# Altium footprint library tempsensor.PcbLib: 19 footprints (part 1 of 2)
Each footprint in its own frame and in the unit in brackets; x right, y up, seen from the top. Pads: shape width x height; smd on the part's side, far side on the other; paste and mask are expansions set on the pad; w line width, h text height; cw(c..) or ccw(c..) is an arc to the next point about the centre after c.
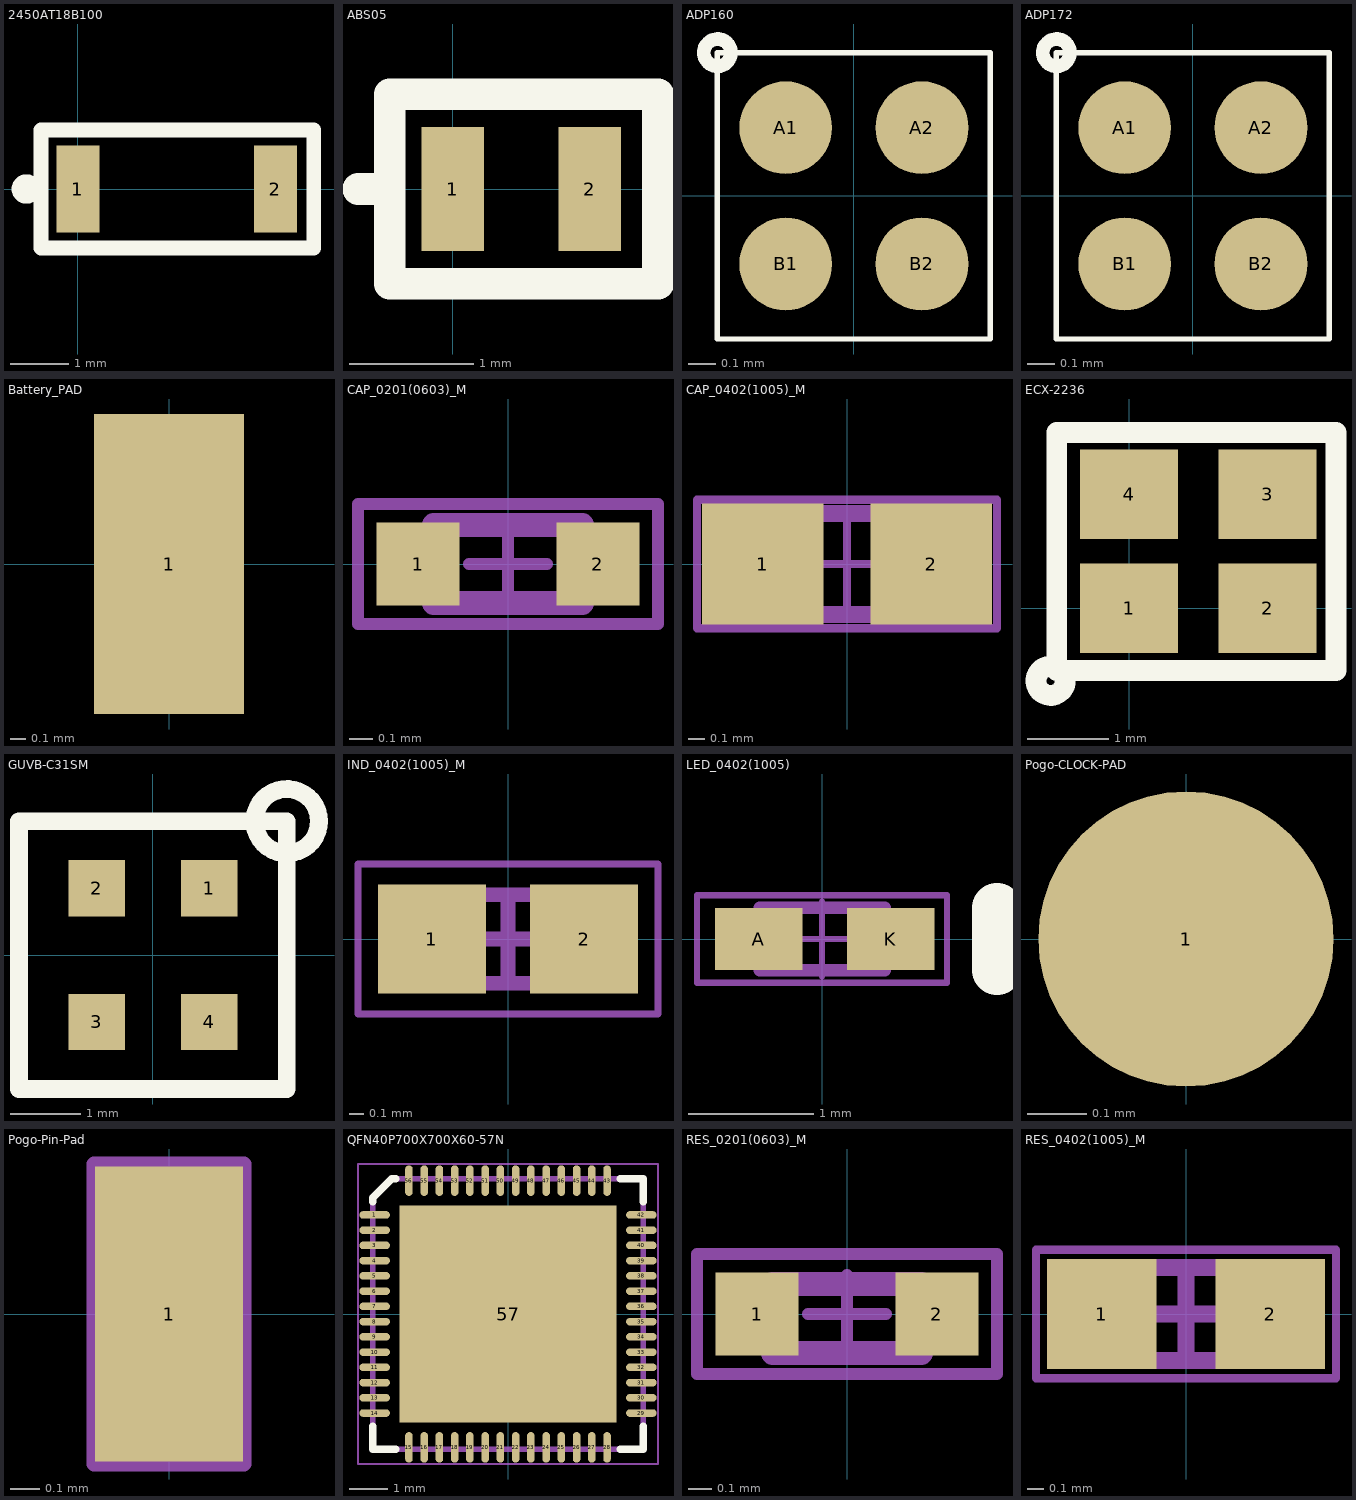
[diagram p0: the footprints below, top view; thin cyan lines are the x and y axes]

## 2450AT18B100 [mm] "2.4GHz Mini Antenna SMD, 50 ohm Resistence"
height 1.35
pads (2):
  rect 0.74x1.5 smd mask+0.03: 1(0,0) 2(3.406,0)
Top Overlay:
  circle w0.254: c-0.889,0 r0.127
  lines w0.254: -0.635,-1.016 -0.635,1.016 4.064,1.016 4.064,-1.016 -0.635,-1.016
3D body: height 1.4, standoff 0, extent -0.049,-0.9 3.351,0.9

## ABS05 [mm] "32.768 kHz CRYSTAL 12.5 PF +/-20ppm"
height 1.35
pads (2):
  rect 0.5x1 smd mask+0.1: 1(0,0) 2(1.102,0)
Top Overlay:
  lines w0.254: -0.762,0 -0.508,0 ; -0.508,-0.762 -0.508,0.762 1.651,0.762 1.651,-0.762 -0.508,-0.762
3D body "ABS05.STEP": height 0.5, standoff 0, extent -0.254,-0.5 1.346,0.5

## ADP160 [mm] "4-Ball WLCSP, CB-4-4"
height 0.595
pads (4):
  round 0.34 smd paste+0.01 mask+0.01: A1(-0.25,0.25) A2(0.25,0.25) B1(-0.25,-0.25) B2(0.25,-0.25)
Top Overlay:
  circle w0.05: c-0.5,0.525 r0.05
  lines w0.02: -0.5,-0.525 0.5,-0.525 0.5,0.525 -0.5,0.525 -0.5,-0.525
3D body: height 0.69, standoff 0.21, extent -0.48,-0.48 0.48,0.48

## ADP172 [mm] "4-Ball WLCSP, CB-4-4"
height 0.595
pads (4):
  round 0.34 smd paste+0.01 mask+0.01: A1(-0.25,0.25) A2(0.25,0.25) B1(-0.25,-0.25) B2(0.25,-0.25)
Top Overlay:
  circle w0.05: c-0.5,0.525 r0.05
  lines w0.02: -0.5,-0.525 0.5,-0.525 0.5,0.525 -0.5,0.525 -0.5,-0.525
3D body: height 0.69, standoff 0.21, extent -0.48,-0.48 0.48,0.48

## Battery_PAD [mm]
pads (1):
  rect 1x2 smd: 1(0,0)

## CAP_0201(0603)_M [mm] "Chip Capacitor, Body 0.6x0.3mm, Height 0.33mm, IPC Low Density"
height 0.33
pads (2):
  rect 0.35x0.35 smd mask+0: 1(-0.381,0) 2(0.381,0)
Mechanical 13:
  lines w0.1: -0.315,-0.165 -0.315,0.165 0.315,0.165 0.315,-0.165 -0.315,-0.165
Mechanical 15:
  lines w0.05: -0.165,0 0.165,0 ; 0,-0.165 0,0.165 ; -0.635,-0.254 -0.635,0.254 0.635,0.254 0.635,-0.254 -0.635,-0.254
3D body: height 0.33, standoff 0, extent -0.165,-0.165 0.165,0.165
3D body: height 0.33, standoff 0, extent -0.315,-0.165 -0.165,0.165
3D body: height 0.33, standoff 0, extent 0.165,-0.165 0.315,0.165

## CAP_0402(1005)_M [mm] "Chip Capacitor, Body 1.0x0.5mm, Height 0.6mm, IPC Low Density"
height 0.6
pads (2):
  rect 0.72x0.72 smd: 1(-0.5,0) 2(0.5,0)
Mechanical 13:
  lines w0.1: -0.55,-0.3 0.55,-0.3 0.55,0.3 -0.55,0.3 -0.55,-0.3
Mechanical 15:
  lines w0.05: -0.3,0 0.3,0 ; 0,-0.3 0,0.3 ; -0.889,-0.381 0.889,-0.381 0.889,0.381 -0.889,0.381 -0.889,-0.381
3D body: height 0.6, standoff 0, extent 0.3,-0.3 0.55,0.3
3D body: height 0.6, standoff 0, extent -0.55,-0.3 -0.3,0.3
3D body: height 0.6, standoff 0, extent -0.3,-0.3 0.3,0.3

## ECX-2236 [mm] "48 MHz CRYSTAL 2.5X2.0mm"
height 1.35
pads (4):
  rect 1.2x1.1 smd mask+0.05: 1(0,0) 2(1.7,0) 4(0,1.4)
  rect 1.2x1.1 smd paste+0 mask+0.05: 3(1.7,1.4)
Top Overlay:
  circle w0.254: c-0.963,-0.889 r0.18
  lines w0.254: -0.889,-0.762 -0.889,2.159 2.54,2.159 2.54,-0.762 -0.889,-0.762
3D body: height 0.8, standoff 0, extent -0.361,-0.238 2.139,1.762

## GUVB-C31SM [mm]
pads (4):
  rect 0.8x0.8 smd: 1(0.8,0.95) 2(-0.8,0.95) 3(-0.8,-0.95) 4(0.8,-0.95)
Top Overlay:
  circle w0.254: c1.905,1.905 r0.458
  lines w0.254: -1.905,-1.905 -1.905,1.905 1.905,1.905 1.905,-1.905 -1.905,-1.905
3D body "guvb_c31sm.STEP": height 1.4, standoff 0, extent -1,-1.15 1,1.15

## IND_0402(1005)_M [mm] "Chip Inductor, 2-Leads, Body 1.1x0.6mm, IPC Low Density"
height 0.45
pads (2):
  rect 0.73x0.74 smd: 1(-0.515,0) 2(0.515,0)
Mechanical 13:
  lines w0.1: -0.55,-0.3 -0.55,0.3 0.55,0.3 0.55,-0.3 -0.55,-0.3
Mechanical 15:
  lines w0.05: -1.016,-0.508 -1.016,0.508 1.016,0.508 1.016,-0.508 -1.016,-0.508
  lines w0.1: -0.3,0 0.3,0 ; 0,-0.3 0,0.3
3D body "INDC1005X05M.step": height 0.45, standoff 0, extent -0.55,-0.3 0.55,0.3

## LED_0402(1005) [mm] "SMD, 2-Leads, Body 1x0.5mm"
height 0.6
pads (2):
  rect 0.7x0.5 smd: A(-0.508,0) K(0.55,0)
Top Overlay:
  lines w0.4: 1.4,-0.25 1.4,0.25
Mechanical 13:
  lines w0.1: 0.4,-0.25 0.4,0.25 ; -0.5,-0.25 -0.5,0.25 0.5,0.25 0.5,-0.25 -0.5,-0.25
Mechanical 15:
  lines w0.05: -0.3,0 0.3,0 ; 0,-0.3 0,0.3 ; -1,-0.35 -1,0.35 1,0.35 1,-0.35 -1,-0.35
3D body: height 0.6, standoff 0.15, extent -0.399,-0.249 0.399,0.249
3D body: height 0.15, standoff 0, extent -0.499,-0.249 0.499,0.249

## Pogo-CLOCK-PAD [mm]
pads (1):
  round 0.5 smd: 1(0,0)

## Pogo-Pin-Pad [mm]
pads (1):
  rect 0.5x1 smd: 1(0,0)
Mechanical 13:
  lines w0.1: -0.165,-0.315 0.165,-0.315 ; -0.165,0.315 0.165,0.315
Mechanical 15:
  lines w0.05: -0.165,0 0.165,0 ; 0,-0.165 0,0.165 ; -0.254,-0.508 0.254,-0.508 0.254,0.508 -0.254,0.508 -0.254,-0.508
3D body: height 0.33, standoff 0, extent -0.165,-0.165 0.165,0.165
3D body: height 0.33, standoff 0, extent -0.165,-0.315 0.165,-0.165
3D body: height 0.33, standoff 0, extent -0.165,0.165 0.165,0.315

## QFN40P700X700X60-57N [mm]
height 0.6
pads (57):
  oval 0.8x0.2 smd mask+0: 1(-3.5,2.6) 2(-3.5,2.2) 3(-3.5,1.8) 4(-3.5,1.4) 5(-3.5,1) 6(-3.5,0.6) 7(-3.5,0.2) 8(-3.5,-0.2) 9(-3.5,-0.6) 10(-3.5,-1) 11(-3.5,-1.4) 12(-3.5,-1.8) 13(-3.5,-2.2) 14(-3.5,-2.6) 29(3.5,-2.6) 30(3.5,-2.2) 31(3.5,-1.8) 32(3.5,-1.4) 33(3.5,-1) 34(3.5,-0.6) 35(3.5,-0.2) 36(3.5,0.2) 37(3.5,0.6) 38(3.5,1) 39(3.5,1.4) 40(3.5,1.8) 41(3.5,2.2) 42(3.5,2.6)
  oval 0.2x0.8 smd mask+0: 15(-2.6,-3.5) 16(-2.2,-3.5) 17(-1.8,-3.5) 18(-1.4,-3.5) 19(-1,-3.5) 20(-0.6,-3.5) 21(-0.2,-3.5) 22(0.2,-3.5) 23(0.6,-3.5) 24(1,-3.5) 25(1.4,-3.5) 26(1.8,-3.5) 27(2.2,-3.5) 28(2.6,-3.5) 43(2.6,3.5) 44(2.2,3.5) 45(1.8,3.5) 46(1.4,3.5) 47(1,3.5) 48(0.6,3.5) 49(0.2,3.5) 50(-0.2,3.5) 51(-0.6,3.5) 52(-1,3.5) 53(-1.4,3.5) 54(-1.8,3.5) 55(-2.2,3.5) 56(-2.6,3.5)
  rect 5.7x5.7 smd paste-5.7 mask+0: 57(0,0)
Top Overlay:
  lines w0.2: -3.55,-2.95 -3.55,-3.55 -2.95,-3.55 ; -3.55,2.95 -3.55,3.05 -3.05,3.55 -2.95,3.55 ; 2.951,-3.55 3.55,-3.55 3.55,-2.95 ; 2.95,3.55 3.55,3.55 3.55,2.951
Top Paste:
  region: -0.25,-2.35 -2.35,-2.35 -2.35,-0.25 -0.25,-0.25
  region: 2.35,-2.35 0.25,-2.35 0.25,-0.25 2.35,-0.25
  region: 2.35,0.25 0.25,0.25 0.25,2.35 2.35,2.35
  region: -0.25,0.25 -2.35,0.25 -2.35,2.35 -0.25,2.35
Mechanical 13:
  lines w0.15: -3.55,-3.55 3.55,-3.55 3.55,3.55 -3.05,3.55 -3.55,3.05 -3.55,-3.55
  text ".Designator" at -2.921,-0.254 h0.8
Mechanical 15:
  lines w0.05: -3.937,-3.937 -3.937,3.937 3.937,3.937 3.937,-3.937 -3.937,-3.937
3D body: height 0.6, standoff 0, extent -3.551,-3.551 3.551,3.551

## RES_0201(0603)_M [mm] "Chip Resistor, Body 0.6x0.3mm, IPC Low Density"
height 0.3
pads (2):
  rect 0.35x0.35 smd mask-0.05: 1(-0.381,0)
  rect 0.35x0.35 smd mask-0.5: 2(0.381,0)
Mechanical 13:
  lines w0.1: -0.315,-0.165 0.315,-0.165 0.315,0.127 -0.315,0.127 -0.315,-0.165
Mechanical 15:
  lines w0.05: -0.165,0 0.165,0 ; 0,-0.165 0,0.165 ; -0.635,-0.254 0.635,-0.254 0.635,0.254 -0.635,0.254 -0.635,-0.254
3D body: height 0.3, standoff 0, extent 0.171,-0.164 0.315,0.165
3D body: height 0.3, standoff 0, extent -0.127,-0.164 0.171,0.165
3D body: height 0.3, standoff 0, extent -0.314,-0.164 -0.17,0.165

## RES_0402(1005)_M [mm] "Chip Resistor, 2-Leads, Body 1.05x0.55mm, IPC Low Density"
height 0.4
pads (2):
  rect 0.65x0.65 smd: 1(-0.5,0) 2(0.5,0)
Mechanical 13:
  lines w0.1: -0.525,-0.275 -0.525,0.275 0.525,0.275 0.525,-0.275 -0.525,-0.275
Mechanical 15:
  lines w0.05: -0.889,-0.381 -0.889,0.381 0.889,0.381 0.889,-0.381 -0.889,-0.381
  lines w0.1: -0.275,0 0.275,0 ; 0,-0.275 0,0.275
3D body "RESC1005X04M.step": height 0.4, standoff 0, extent -0.525,-0.275 0.525,0.275